# Altium integrated library WS-DITV 2.54 mm Compact THT Dip Switch with Flat Actuator.IntLib: 11 symbols
Pins are listed as number, name and electrical type; pins without a type are passive.

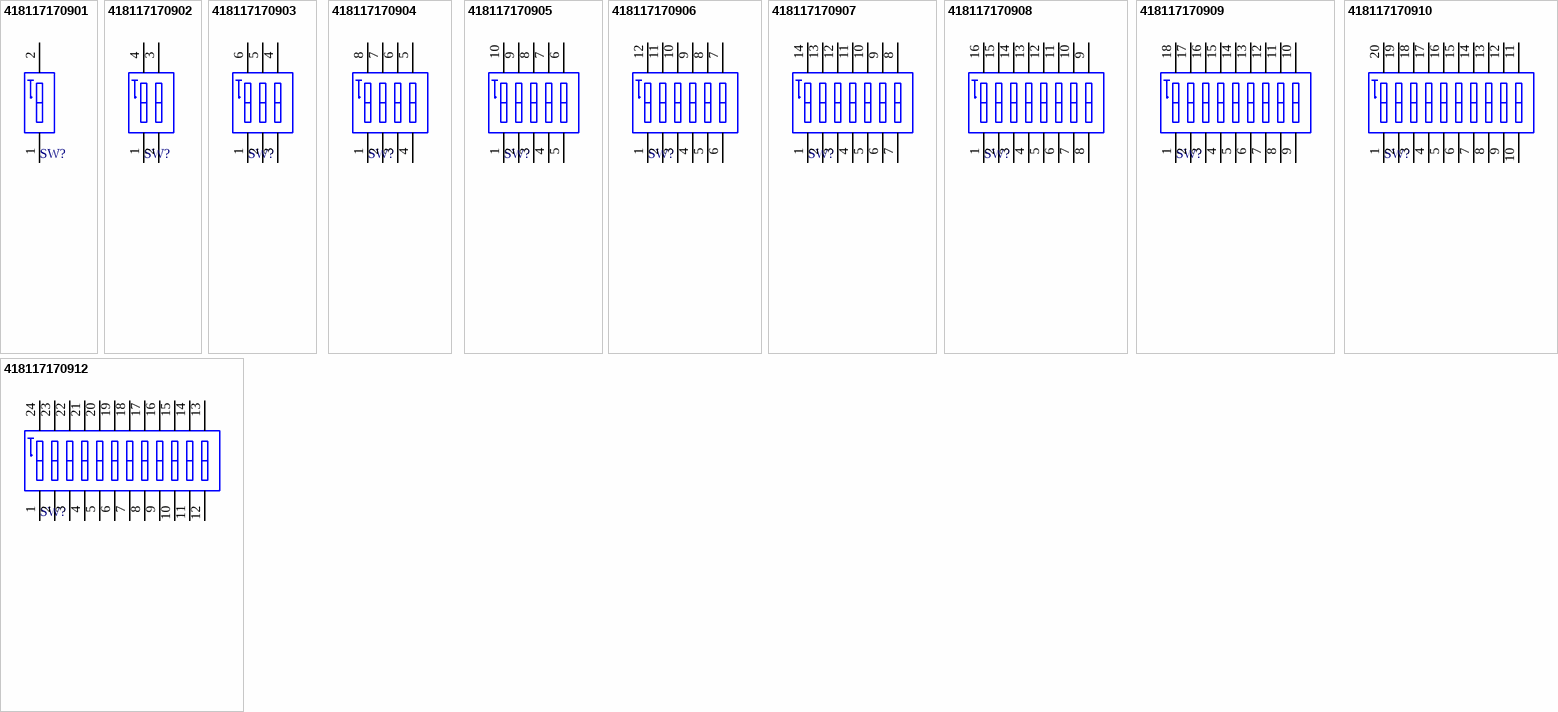
[diagram p0: symbols 418117170901 to 418117170912]

## 418117170901
designator SW?
2.54 mm Compact THT Dip Switch with Flat Actuator WS-DITV; PartNumber: 418117170901; NoPins: 2; PackageReference: 418117170901; ComponentLink1Description: Manufacturer URL; ComponentLink1URL: http://www.we-online.com; ComponentLink2Description: Datasheet; ComponentLink2URL: http://katalog.we-online.de/em/datasheet/4181171709xx.pdf
footprint 418117170901 (01p, 2.54mm Pitch, Horizontal, Box Type, THT, flat Actuator, red, without Tape, Tube)
pins: 1, 2

## 418117170902
designator SW?
2.54 mm Compact THT Dip Switch with Flat Actuator WS-DITV; PartNumber: 418117170902; NoPins: 4; PackageReference: 418117170902; ComponentLink1Description: Manufacturer URL; ComponentLink1URL: http://www.we-online.com; ComponentLink2Description: Datasheet; ComponentLink2URL: http://katalog.we-online.de/em/datasheet/4181171709xx.pdf
footprint 418117170902 (02p, 2.54mm Pitch, Horizontal, Box Type, THT, flat Actuator, red, without Tape, Tube)
pins: 1, 2, 3, 4

## 418117170903
designator SW?
2.54 mm Compact THT Dip Switch with Flat Actuator WS-DITV; PartNumber: 418117170903; NoPins: 6; PackageReference: 418117170903; ComponentLink1Description: Manufacturer URL; ComponentLink1URL: http://www.we-online.com; ComponentLink2Description: Datasheet; ComponentLink2URL: http://katalog.we-online.de/em/datasheet/4181171709xx.pdf
footprint 418117170903 (03p, 2.54mm Pitch, Horizontal, Box Type, THT, flat Actuator, red, without Tape, Tube)
pins: 1, 2, 3, 4, 5, 6

## 418117170904
designator SW?
2.54 mm Compact THT Dip Switch with Flat Actuator WS-DITV; PartNumber: 418117170904; NoPins: 8; PackageReference: 418117170904; ComponentLink1Description: Manufacturer URL; ComponentLink1URL: http://www.we-online.com; ComponentLink2Description: Datasheet; ComponentLink2URL: http://katalog.we-online.de/em/datasheet/4181171709xx.pdf
footprint 418117170904 (04p, 2.54mm Pitch, Horizontal, Box Type, THT, flat Actuator, red, without Tape, Tube)
pins: 1, 2, 3, 4, 5, 6, 7, 8

## 418117170905
designator SW?
2.54 mm Compact THT Dip Switch with Flat Actuator WS-DITV; PartNumber: 418117170905; NoPins: 10; PackageReference: 418117170905; ComponentLink1Description: Manufacturer URL; ComponentLink1URL: http://www.we-online.com; ComponentLink2Description: Datasheet; ComponentLink2URL: http://katalog.we-online.de/em/datasheet/4181171709xx.pdf
footprint 418117170905 (05p, 2.54mm Pitch, Horizontal, Box Type, THT, flat Actuator, red, without Tape, Tube)
pins: 1, 2, 3, 4, 5, 6, 7, 8, 9, 10

## 418117170906
designator SW?
2.54 mm Compact THT Dip Switch with Flat Actuator WS-DITV; PartNumber: 418117170906; NoPins: 12; PackageReference: 418117170906; ComponentLink1Description: Manufacturer URL; ComponentLink1URL: http://www.we-online.com; ComponentLink2Description: Datasheet; ComponentLink2URL: http://katalog.we-online.de/em/datasheet/4181171709xx.pdf
footprint 418117170906 (06p, 2.54mm Pitch, Horizontal, Box Type, THT, flat Actuator, red, without Tape, Tube)
pins: 1, 2, 3, 4, 5, 6, 7, 8, 9, 10, 11, 12

## 418117170907
designator SW?
2.54 mm Compact THT Dip Switch with Flat Actuator WS-DITV; PartNumber: 418117170907; NoPins: 14; PackageReference: 418117170907; ComponentLink1Description: Manufacturer URL; ComponentLink1URL: http://www.we-online.com; ComponentLink2Description: Datasheet; ComponentLink2URL: http://katalog.we-online.de/em/datasheet/4181171709xx.pdf
footprint 418117170907 (07p, 2.54mm Pitch, Horizontal, Box Type, THT, flat Actuator, red, without Tape, Tube)
pins: 1, 2, 3, 4, 5, 6, 7, 8, 9, 10, 11, 12, 13, 14

## 418117170908
designator SW?
2.54 mm Compact THT Dip Switch with Flat Actuator WS-DITV; PartNumber: 418117170908; NoPins: 16; PackageReference: 418117170908; ComponentLink1Description: Manufacturer URL; ComponentLink1URL: http://www.we-online.com; ComponentLink2Description: Datasheet; ComponentLink2URL: http://katalog.we-online.de/em/datasheet/4181171709xx.pdf
footprint 418117170908 (08p, 2.54mm Pitch, Horizontal, Box Type, THT, flat Actuator, red, without Tape, Tube)
pins: 1, 2, 3, 4, 5, 6, 7, 8, 9, 10, 11, 12, 13, 14, 15, 16

## 418117170909
designator SW?
2.54 mm Compact THT Dip Switch with Flat Actuator WS-DITV; PartNumber: 418117170909; NoPins: 18; PackageReference: 418117170909; ComponentLink1Description: Manufacturer URL; ComponentLink1URL: http://www.we-online.com; ComponentLink2Description: Datasheet; ComponentLink2URL: http://katalog.we-online.de/em/datasheet/4181171709xx.pdf
footprint 418117170909 (09p, 2.54mm Pitch, Horizontal, Box Type, THT, flat Actuator, red, without Tape, Tube)
pins: 1, 2, 3, 4, 5, 6, 7, 8, 9, 10, 11, 12, 13, 14, 15, 16, 17, 18

## 418117170910
designator SW?
2.54 mm Compact THT Dip Switch with Flat Actuator WS-DITV; PartNumber: 418117170910; NoPins: 20; PackageReference: 418117170910; ComponentLink1Description: Manufacturer URL; ComponentLink1URL: http://www.we-online.com; ComponentLink2Description: Datasheet; ComponentLink2URL: http://katalog.we-online.de/em/datasheet/4181171709xx.pdf
footprint 418117170910 (10p, 2.54mm Pitch, Horizontal, Box Type, THT, flat Actuator, red, without Tape, Tube)
pins: 1, 2, 3, 4, 5, 6, 7, 8, 9, 10, 11, 12, 13, 14, 15, 16, 17, 18, 19, 20

## 418117170912
designator SW?
2.54 mm Compact THT Dip Switch with Flat Actuator WS-DITV; PartNumber: 418117170912; NoPins: 24; PackageReference: 418117170912; ComponentLink1Description: Manufacturer URL; ComponentLink1URL: http://www.we-online.com; ComponentLink2Description: Datasheet; ComponentLink2URL: http://katalog.we-online.de/em/datasheet/4181171709xx.pdf
footprint 418117170912 (12p, 2.54mm Pitch, Horizontal, Box Type, THT, flat Actuator, red, without Tape, Tube)
pins: 1, 2, 3, 4, 5, 6, 7, 8, 9, 10, 11, 12, 13, 14, 15, 16, 17, 18, 19, 20, 21, 22, 23, 24